# Altium footprint library 3-338168-2.PcbLib: 1 footprints
Each footprint in its own frame and in the unit in brackets; x right, y up, seen from the top. Pads: shape width x height; smd on the part's side, far side on the other; paste and mask are expansions set on the pad; w line width, h text height; cw(c..) or ccw(c..) is an arc to the next point about the centre after c.
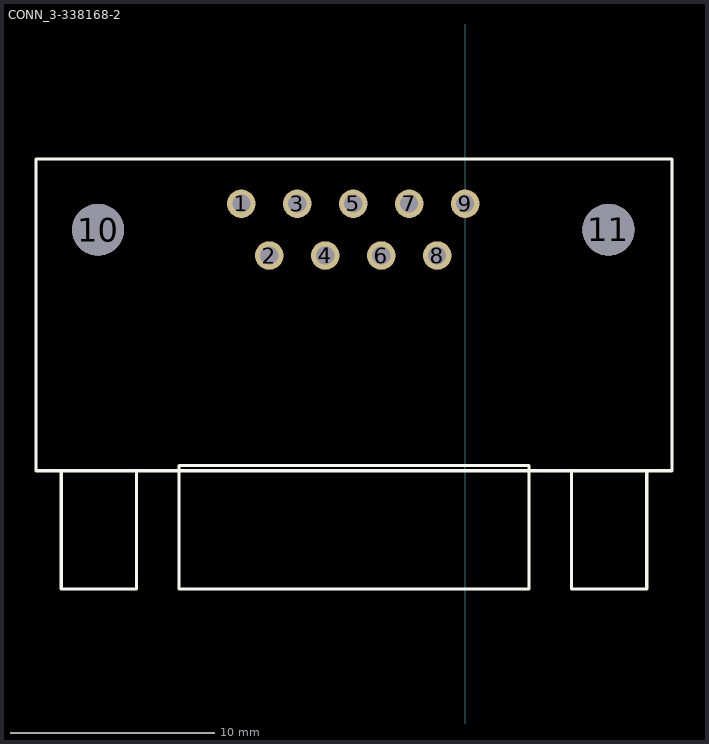
[diagram p0: the footprint, top view; thin cyan lines are the x and y axes]

## CONN_3-338168-2 [mil]
pads (11):
  round 55 hole 35: 1(-431.5,-813.39) 2(-377.56,-913.39) 3(-323.62,-813.39) 4(-269.69,-913.39) 5(-215.75,-813.39) 6(-161.81,-913.39) 7(-107.87,-813.39) 8(-53.94,-913.39) 9(0,-813.39)
  round 100 hole 100: 10(-707.75,-863.69) 11(276.25,-863.69)
Top Overlay:
  lines w6: -778.75,-1328.31 -778.75,-1556.31 -633.75,-1556.31 -633.75,-1328.31 ; 205.25,-1328.31 205.25,-1556.31 350.25,-1556.31 350.25,-1328.31 ; -827.75,-1328.31 -827.75,-727.31 399.25,-727.31 399.25,-1328.31 -827.75,-1328.31 ; -551.75,-1556.31 -551.75,-1318.31 123.25,-1318.31 123.25,-1556.31 -551.75,-1556.31
3D body "c-3-338168-2-g-3d.stp": height 67.32, standoff -594.09, extent -827,-1568.58 397.01,-730